# Altium footprint library Footprint_SMT_Memory.PcbLib: 2 footprints
Each footprint in its own frame and in the unit in brackets; x right, y up, seen from the top. Pads: shape width x height; smd on the part's side, far side on the other; paste and mask are expansions set on the pad; w line width, h text height; cw(c..) or ccw(c..) is an arc to the next point about the centre after c.
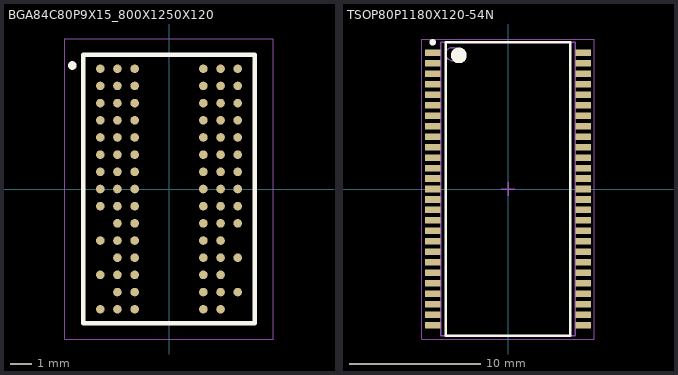
[diagram p0: the footprints below, top view; thin cyan lines are the x and y axes]

## BGA84C80P9X15_800X1250X120 [mm]
pads (84):
  round 0.4 smd: A1(-3.2,5.6) A2(-2.4,5.6) A3(-1.6,5.6) A7(1.6,5.6) A8(2.4,5.6) A9(3.2,5.6) B1(-3.2,4.8) B2(-2.4,4.8) B3(-1.6,4.8) B7(1.6,4.8) B8(2.4,4.8) B9(3.2,4.8) C1(-3.2,4) C2(-2.4,4) C3(-1.6,4) C7(1.6,4) C8(2.4,4) C9(3.2,4) D1(-3.2,3.2) D2(-2.4,3.2) D3(-1.6,3.2) D7(1.6,3.2) D8(2.4,3.2) D9(3.2,3.2) E1(-3.2,2.4) E2(-2.4,2.4) E3(-1.6,2.4) E7(1.6,2.4) E8(2.4,2.4) E9(3.2,2.4) F1(-3.2,1.6) F2(-2.4,1.6) F3(-1.6,1.6) F7(1.6,1.6) F8(2.4,1.6) F9(3.2,1.6) G1(-3.2,0.8) G2(-2.4,0.8) G3(-1.6,0.8) G7(1.6,0.8) G8(2.4,0.8) G9(3.2,0.8) H1(-3.2,0) H2(-2.4,0) H3(-1.6,0) H7(1.6,0) H8(2.4,0) H9(3.2,0) J1(-3.2,-0.8) J2(-2.4,-0.8) J3(-1.6,-0.8) J7(1.6,-0.8) J8(2.4,-0.8) J9(3.2,-0.8) K2(-2.4,-1.6) K3(-1.6,-1.6) K7(1.6,-1.6) K8(2.4,-1.6) K9(3.2,-1.6) L1(-3.2,-2.4) L2(-2.4,-2.4) L3(-1.6,-2.4) L7(1.6,-2.4) L8(2.4,-2.4) M2(-2.4,-3.2) M3(-1.6,-3.2) M7(1.6,-3.2) M8(2.4,-3.2) M9(3.2,-3.2) N1(-3.2,-4) N2(-2.4,-4) N3(-1.6,-4) N7(1.6,-4) N8(2.4,-4) P2(-2.4,-4.8) P3(-1.6,-4.8) P7(1.6,-4.8) P8(2.4,-4.8) P9(3.2,-4.8) R1(-3.2,-5.6) R2(-2.4,-5.6) R3(-1.6,-5.6) R7(1.6,-5.6) R8(2.4,-5.6)
Top Overlay:
  circle w0.2: c-4.5,5.75 r0.1
  lines w0.203: -4,-6.25 -4,6.25 4,6.25 4,-6.25 -4,-6.25
Top Solder:
  circle w0: c-3.2,5.6 r0.3
  circle w0: c-2.4,5.6 r0.3
  circle w0: c-1.6,5.6 r0.3
  circle w0: c1.6,5.6 r0.3
  circle w0: c2.4,5.6 r0.3
  circle w0: c3.2,5.6 r0.3
  circle w0: c-3.2,4.8 r0.3
  circle w0: c-2.4,4.8 r0.3
  circle w0: c-1.6,4.8 r0.3
  circle w0: c1.6,4.8 r0.3
  circle w0: c2.4,4.8 r0.3
  circle w0: c3.2,4.8 r0.3
  circle w0: c-3.2,4 r0.3
  circle w0: c-2.4,4 r0.3
  circle w0: c-1.6,4 r0.3
  circle w0: c1.6,4 r0.3
  circle w0: c2.4,4 r0.3
  circle w0: c3.2,4 r0.3
  circle w0: c-3.2,3.2 r0.3
  circle w0: c-2.4,3.2 r0.3
  circle w0: c-1.6,3.2 r0.3
  circle w0: c1.6,3.2 r0.3
  circle w0: c2.4,3.2 r0.3
  circle w0: c3.2,3.2 r0.3
  circle w0: c-3.2,2.4 r0.3
  circle w0: c-2.4,2.4 r0.3
  circle w0: c-1.6,2.4 r0.3
  circle w0: c1.6,2.4 r0.3
  circle w0: c2.4,2.4 r0.3
  circle w0: c3.2,2.4 r0.3
  circle w0: c-3.2,1.6 r0.3
  circle w0: c-2.4,1.6 r0.3
  circle w0: c-1.6,1.6 r0.3
  circle w0: c1.6,1.6 r0.3
  circle w0: c2.4,1.6 r0.3
  circle w0: c3.2,1.6 r0.3
  circle w0: c-3.2,0.8 r0.3
  circle w0: c-2.4,0.8 r0.3
  circle w0: c-1.6,0.8 r0.3
  circle w0: c1.6,0.8 r0.3
  circle w0: c2.4,0.8 r0.3
  circle w0: c3.2,0.8 r0.3
  circle w0: c-3.2,0 r0.3
  circle w0: c-2.4,0 r0.3
  circle w0: c-1.6,0 r0.3
  circle w0: c1.6,0 r0.3
  circle w0: c2.4,0 r0.3
  circle w0: c3.2,0 r0.3
  circle w0: c-3.2,-0.8 r0.3
  circle w0: c-2.4,-0.8 r0.3
  circle w0: c-1.6,-0.8 r0.3
  circle w0: c1.6,-0.8 r0.3
  circle w0: c2.4,-0.8 r0.3
  circle w0: c3.2,-0.8 r0.3
  circle w0: c-2.4,-1.6 r0.3
  circle w0: c-1.6,-1.6 r0.3
  circle w0: c1.6,-1.6 r0.3
  circle w0: c2.4,-1.6 r0.3
  circle w0: c3.2,-1.6 r0.3
  circle w0: c-3.2,-2.4 r0.3
  circle w0: c-2.4,-2.4 r0.3
  circle w0: c-1.6,-2.4 r0.3
  circle w0: c1.6,-2.4 r0.3
  circle w0: c2.4,-2.4 r0.3
  circle w0: c-2.4,-3.2 r0.3
  circle w0: c-1.6,-3.2 r0.3
  circle w0: c1.6,-3.2 r0.3
  circle w0: c2.4,-3.2 r0.3
  circle w0: c3.2,-3.2 r0.3
  circle w0: c-3.2,-4 r0.3
  circle w0: c-2.4,-4 r0.3
  circle w0: c-1.6,-4 r0.3
  circle w0: c1.6,-4 r0.3
  circle w0: c2.4,-4 r0.3
  circle w0: c-2.4,-4.8 r0.3
  circle w0: c-1.6,-4.8 r0.3
  circle w0: c1.6,-4.8 r0.3
  circle w0: c2.4,-4.8 r0.3
  circle w0: c3.2,-4.8 r0.3
  circle w0: c-3.2,-5.6 r0.3
  circle w0: c-2.4,-5.6 r0.3
  circle w0: c-1.6,-5.6 r0.3
  circle w0: c1.6,-5.6 r0.3
  circle w0: c2.4,-5.6 r0.3
Courtyard Top:
  lines w0.05: -4.86,-6.985 -4.86,6.985 4.86,6.985 4.86,-6.985 -4.86,-6.985

## TSOP80P1180X120-54N [mm] "TSOP, 54-Leads, Body 22.20x10.15mm, Pitch 0.80mm, IPC Medium Density"
height 1.2
pads (54):
  rect 1.2x0.5 smd: 1(-5.75,10.4) 2(-5.75,9.6) 3(-5.75,8.8) 4(-5.75,8) 5(-5.75,7.2) 6(-5.75,6.4) 7(-5.75,5.6) 8(-5.75,4.8) 9(-5.75,4) 10(-5.75,3.2) 11(-5.75,2.4) 12(-5.75,1.6) 13(-5.75,0.8) 14(-5.75,0) 15(-5.75,-0.8) 16(-5.75,-1.6) 17(-5.75,-2.4) 18(-5.75,-3.2) 19(-5.75,-4) 20(-5.75,-4.8) 21(-5.75,-5.6) 22(-5.75,-6.4) 23(-5.75,-7.2) 24(-5.75,-8) 25(-5.75,-8.8) 26(-5.75,-9.6) 27(-5.75,-10.4) 28(5.75,-10.4) 29(5.75,-9.6) 30(5.75,-8.8) 31(5.75,-8) 32(5.75,-7.2) 33(5.75,-6.4) 34(5.75,-5.6) 35(5.75,-4.8) 36(5.75,-4) 37(5.75,-3.2) 38(5.75,-2.4) 39(5.75,-1.6) 40(5.75,-0.8) 41(5.75,0) 42(5.75,0.8) 43(5.75,1.6) 44(5.75,2.4) 45(5.75,3.2) 46(5.75,4) 47(5.75,4.8) 48(5.75,5.6) 49(5.75,6.4) 50(5.75,7.2) 51(5.75,8) 52(5.75,8.8) 53(5.75,9.6) 54(5.75,10.4)
Top Overlay:
  circle w0.25: c-5.75,11.2 r0.125
  circle w0.6: c-3.75,10.2 r0.3
  lines w0.2: -4.75,-11.2 -4.75,11.2 4.75,11.2 4.75,-11.2 -4.75,-11.2
Assembly Top:
  circle w0.1: c-4.25,10.3 r0.5
  lines w0.1: -5.15,-11.2 -5.15,11.2 5.15,11.2 5.15,-11.2 -5.15,-11.2
Courtyard Top:
  lines w0.05: -6.6,-11.45 -6.6,11.45 6.6,11.45 6.6,-11.45 -6.6,-11.45
  lines w0.1: -0.5,0 0.5,0 ; 0,-0.5 0,0.5
3D body "TSOP80P1180X120-54N.step": height 1.2, standoff 0, extent -5.9,-11.2 5.9,11.2